# Altium schematic symbol library ic_timer_555.SchLib: 23 symbols
Pins are listed as number, name and electrical type; pins without a type are passive.

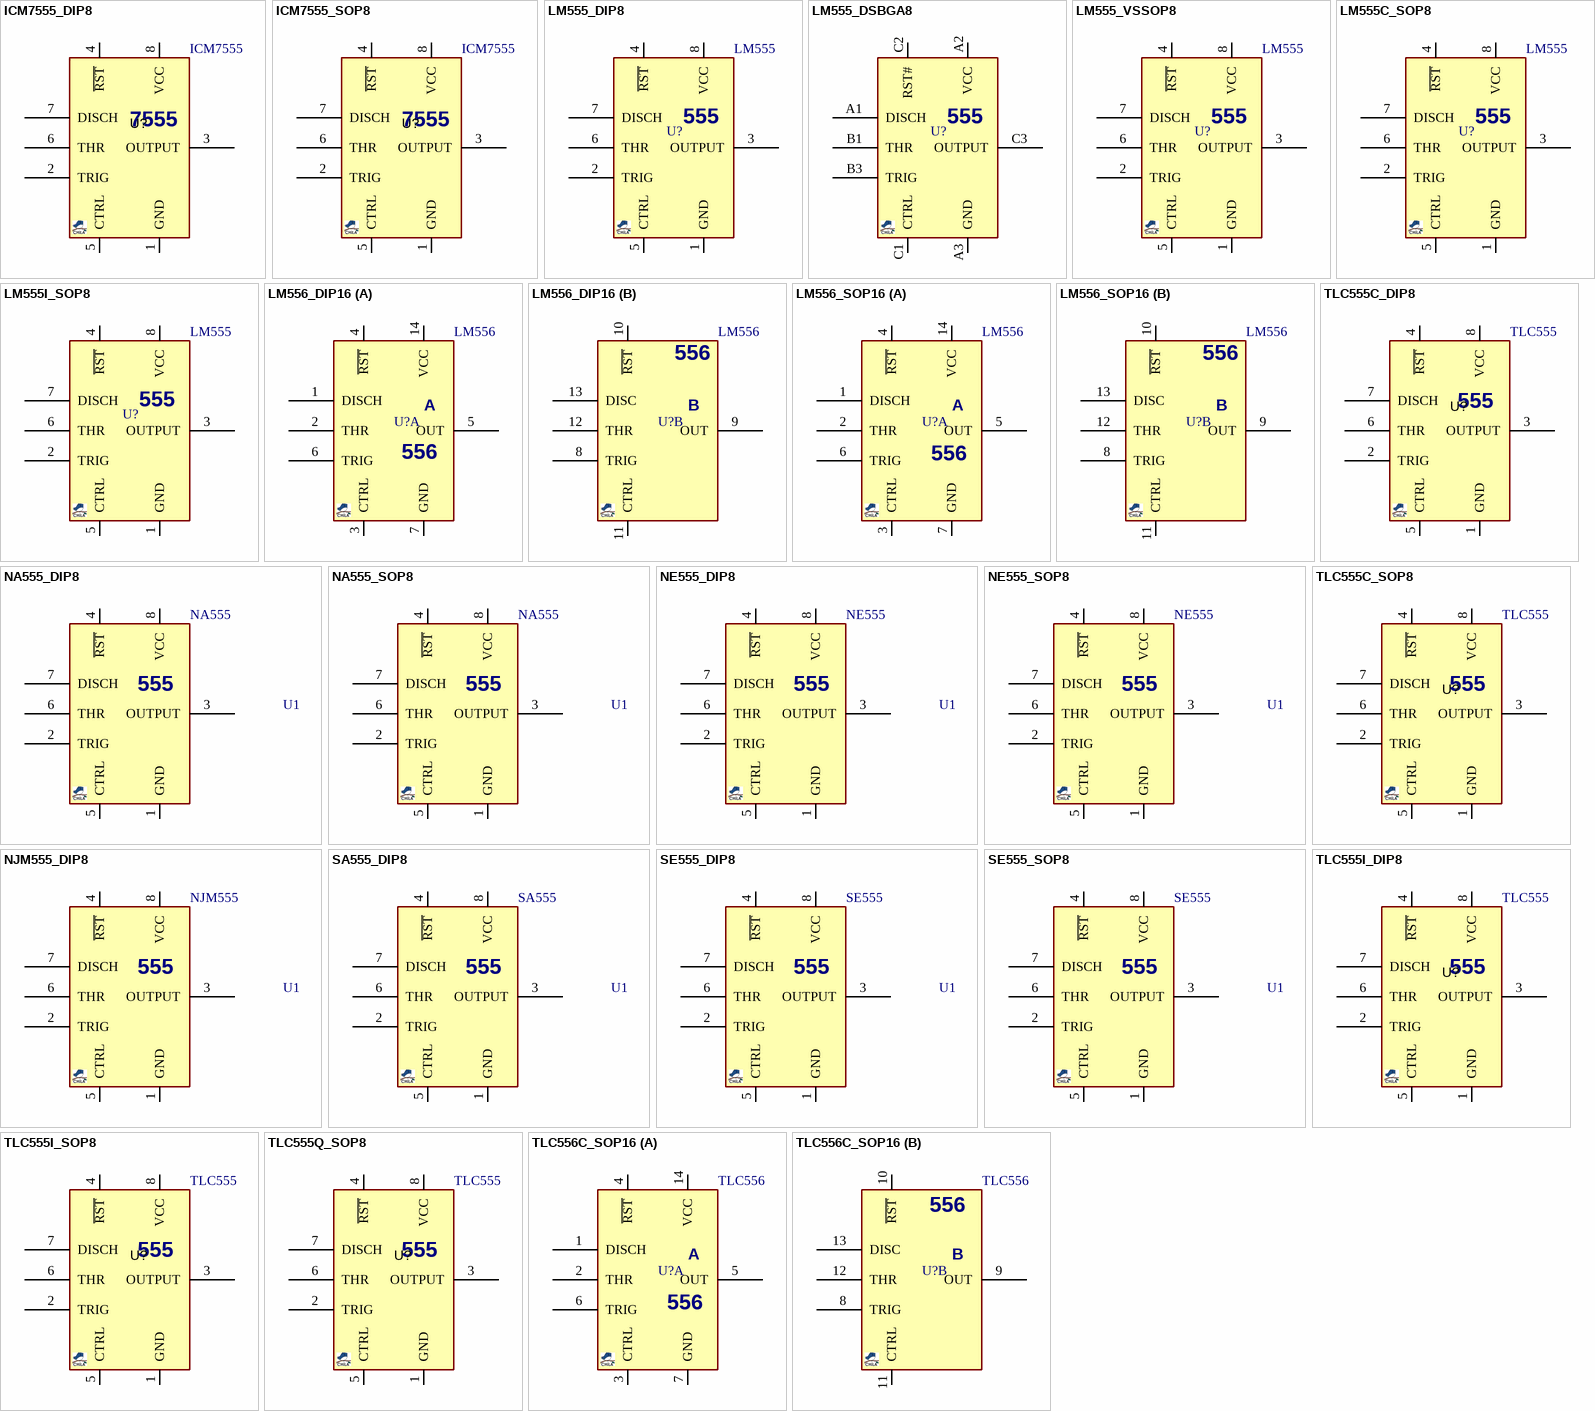
[diagram p0: symbols ICM7555_DIP8 to TLC556C_SOP16]

## ICM7555_DIP8
designator U?, comment ICM7555
555 Timer, CMOS; PARAM: 500kHz, 180µA; PARAM2: 2~18v; MANF_P#: ICM7555CD/01,118, ICM7555IPAZ, ICM7555IPA+; MANF: NXP, Intersil, MAXIM; VALUE: ICM7555
footprint DIP_8 (DIP, pitch 2.54mm, 300mil Width)
pins: 1 GND, 2 TRIG, 3 OUTPUT, 4 ~{RST}, 5 CTRL, 6 THR, 7 DISCH, 8 VCC
text: 7555

## ICM7555_SOP8
designator U?, comment ICM7555
555 Timer, CMOS; PARAM: 500kHz, 180µA; PARAM2: 2~18v; MANF_P#: ICM7555CD/01,118, ICM7555CBAZ-T, ICM7555ESA+, ICM7555ISA+, ICM7555CBAZ, ICM7555IBAZ; MANF: NXP, INTERSIL, MAXIM; VALUE: ICM7555
footprint SO_8
pins: 1 GND, 2 TRIG, 3 OUTPUT, 4 ~{RST}, 5 CTRL, 6 THR, 7 DISCH, 8 VCC
text: 7555

## LM555_DIP8
designator U?, comment LM555
555 Timer,; MANF: Fairchild, Texas Instruments; MANF_P#: LM555CN; PARAM2: 4.5~16V; PARAM: 200mA output; VALUE: LM555
footprint DIP_8 (DIP, pitch 2.54mm, 300mil Width)
pins: 1 GND, 2 TRIG, 3 OUTPUT, 4 ~{RST}, 5 CTRL, 6 THR, 7 DISCH, 8 VCC
text: 555

## LM555_DSBGA8
designator U?, comment LM555  (value not drawn)
555 Timer, DSBGA-8; MANF: Texas Instruments; MANF_P#: LMC555CTP; PARAM2: 4.5~16V; PARAM: 200mA output, -40~85°C; PRICE: 1.2$; VALUE: LM555
footprint BGA50_8_1414 (DSBGA-8, YPB8, 0.5mm pitch, 1.45x1.45x0.6mm)
pins: A1 DISCH, A2 VCC, A3 GND, B1 THR, B3 TRIG, C1 CTRL, C2 RST#, C3 OUTPUT
text: 555

## LM555_VSSOP8
designator U?, comment LM555
555 Timer, VSSOP-8; MANF: Texas Instruments; MANF_P#: LMC555CMM; PARAM2: 4.5~16V; PARAM: 200mA output; VALUE: LM555
footprint SOG50_8 (VSSOP DCU US8  (TI), 8-Leads, 2.00x2.30mm, Pitch 0.50mm)
pins: 1 GND, 2 TRIG, 3 OUTPUT, 4 ~{RST}, 5 CTRL, 6 THR, 7 DISCH, 8 VCC
text: 555

## LM555C_SOP8
designator U?, comment LM555
555 Timer,; MANF: Texas Instruments; MANF_P#: LM555CMX, LMC555CM; PARAM2: 4.5~16V; PARAM: 200mA output, 0~70oC; VALUE: LM555
footprint SO_8
pins: 1 GND, 2 TRIG, 3 OUTPUT, 4 ~{RST}, 5 CTRL, 6 THR, 7 DISCH, 8 VCC
text: 555

## LM555I_SOP8
designator U?, comment LM555
555 Timer,; MANF: Texas Instruments; MANF_P#: LMC555IMX; PARAM2: 4.5~16V; PARAM: 200mA output, -40~85oC; VALUE: LM555
footprint SO_8
pins: 1 GND, 2 TRIG, 3 OUTPUT, 4 ~{RST}, 5 CTRL, 6 THR, 7 DISCH, 8 VCC
text: 555

## LM556_DIP16
designator U?, comment LM556
555 Timer, DUAL; MANF_P#: LM556CJ; PARAM2: 4.5~16V; PARAM: 200mA output; VALUE: LM556
footprint DIP_16 (DIP, pitch 2.54mm, 300mil Width)
part A pins: 1 DISCH, 2 THR, 3 CTRL, 4 ~{RST}, 5 OUT, 6 TRIG, 7 GND, 14 VCC
part B pins: 8 TRIG, 9 OUT, 10 ~{RST}, 11 CTRL, 12 THR, 13 DISC
part A text: A; 556
part B text: 556; B

## LM556_SOP16
designator U?, comment LM556
555 Timer, DUAL; MANF_P#: LM556CMX; MANF: Texas Instruments; PARAM2: 4.5~16V; PARAM: 200mA output; VALUE: LM556
footprint SO_16
part A pins: 1 DISCH, 2 THR, 3 CTRL, 4 ~{RST}, 5 OUT, 6 TRIG, 7 GND, 14 VCC
part B pins: 8 TRIG, 9 OUT, 10 ~{RST}, 11 CTRL, 12 THR, 13 DISC
part A text: A; 556
part B text: 556; B

## NA555_DIP8
designator U1, comment NA555
555 Timer, General-Purpose Single Bipolar Timer; MANF_P#: NA555P; MANF: Texas Instruments; PARAM2: 4.5~16V; PARAM: 200mA output, -40~105oC; VALUE: NA555
footprint DIP_8 (DIP, pitch 2.54mm, 300mil Width)
pins: 1 GND, 2 TRIG, 3 OUTPUT, 4 ~{RST}, 5 CTRL, 6 THR, 7 DISCH, 8 VCC
text: 555

## NA555_SOP8
designator U1, comment NA555
555 Timer, General-Purpose Single Bipolar Timer; MANF_P#: NA555DR; MANF: Texas Instruments; PARAM2: 4.5~16V; PARAM: 200mA output, -40~105oC; VALUE: NA555
footprint SO_8
pins: 1 GND, 2 TRIG, 3 OUTPUT, 4 ~{RST}, 5 CTRL, 6 THR, 7 DISCH, 8 VCC
text: 555

## NE555_DIP8
designator U1, comment NE555
555 Timer, General-Purpose Single Bipolar Timer; MANF_P#: NE555P, NE555PE4; MANF: Texas Instruments; PARAM2: 4.5~16V; PARAM: 200mA output, 0~70oC; VALUE: NE555
footprint DIP_8 (DIP, pitch 2.54mm, 300mil Width)
pins: 1 GND, 2 TRIG, 3 OUTPUT, 4 ~{RST}, 5 CTRL, 6 THR, 7 DISCH, 8 VCC
text: 555

## NE555_SOP8
designator U1, comment NE555
555 Timer, General-Purpose Single Bipolar Timer; MANF_P#: NE555DR,; MANF: Texas Instruments; PARAM2: 4.5~16V; PARAM: 200mA output, 0~70oC; VALUE: NE555
footprint SO_8
pins: 1 GND, 2 TRIG, 3 OUTPUT, 4 ~{RST}, 5 CTRL, 6 THR, 7 DISCH, 8 VCC
text: 555

## NJM555_DIP8
designator U1, comment NJM555
555 Timer, General-Purpose Single Bipolar Timer; MANF_P#: NJM555D; MANF: NJR; PARAM2: 4.5~16V; PARAM: 200mA output, -40~85oC; VALUE: NJM555
footprint DIP_8 (DIP, pitch 2.54mm, 300mil Width)
pins: 1 GND, 2 TRIG, 3 OUTPUT, 4 ~{RST}, 5 CTRL, 6 THR, 7 DISCH, 8 VCC
text: 555

## SA555_DIP8
designator U1, comment SA555
555 Timer, General-Purpose Single Bipolar Timer; MANF_P#: SA555P; MANF: Texas Instruments; PARAM2: 4.5~16V; PARAM: 200mA output, -40~85oC; VALUE: SA555
footprint DIP_8 (DIP, pitch 2.54mm, 300mil Width)
pins: 1 GND, 2 TRIG, 3 OUTPUT, 4 ~{RST}, 5 CTRL, 6 THR, 7 DISCH, 8 VCC
text: 555

## SE555_DIP8
designator U1, comment SE555
555 Timer, General-Purpose Single Bipolar Timer; MANF_P#: SE555P; MANF: Texas Instruments; PARAM2: 4.5~16V; PARAM: 200mA output, -55~125oC; VALUE: SE555
footprint DIP_8 (DIP, pitch 2.54mm, 300mil Width)
pins: 1 GND, 2 TRIG, 3 OUTPUT, 4 ~{RST}, 5 CTRL, 6 THR, 7 DISCH, 8 VCC
text: 555

## SE555_SOP8
designator U1, comment SE555
555 Timer, General-Purpose Single Bipolar Timer; MANF_P#: SE555D; MANF: Texas Instruments; PARAM2: 4.5~16V; PARAM: 200mA output, -55~125oC; VALUE: SE555
footprint SO_8
pins: 1 GND, 2 TRIG, 3 OUTPUT, 4 ~{RST}, 5 CTRL, 6 THR, 7 DISCH, 8 VCC
text: 555

## TLC555C_DIP8
designator U?, comment TLC555
555 Timer, CMOS; PARAM: 100mA sink, 10mA source, 180µA; PARAM2: 2~15V, 2100kHz, 0~70oC; MANF_P#: TLC555CP; MANF: Texas Instruments; VALUE: TLC555
footprint DIP_8 (DIP, pitch 2.54mm, 300mil Width)
pins: 1 GND, 2 TRIG, 3 OUTPUT, 4 ~{RST}, 5 CTRL, 6 THR, 7 DISCH, 8 VCC
text: 555

## TLC555C_SOP8
designator U?, comment TLC555
555 Timer, CMOS; PARAM: 100mA sink, 10mA source, 180µA; PARAM2: 2~15V, 2100kHz, 0~70oC; MANF_P#: TLC555CDG4, TLC555CDR; MANF: Texas Instruments; VALUE: TLC555
footprint SO_8
pins: 1 GND, 2 TRIG, 3 OUTPUT, 4 ~{RST}, 5 CTRL, 6 THR, 7 DISCH, 8 VCC
text: 555

## TLC555I_DIP8
designator U?, comment TLC555
555 Timer, CMOS; PARAM: 100mA sink, 10mA source, 180µA; PARAM2: 2~15V, 2100kHz, -40~85oC; MANF_P#: TLC555IP; MANF: Texas Instruments; VALUE: TLC555
footprint DIP_8 (DIP, pitch 2.54mm, 300mil Width)
pins: 1 GND, 2 TRIG, 3 OUTPUT, 4 ~{RST}, 5 CTRL, 6 THR, 7 DISCH, 8 VCC
text: 555

## TLC555I_SOP8
designator U?, comment TLC555
555 Timer, CMOS; PARAM: 100mA sink, 10mA source, 180µA; PARAM2: 2~15V, 2100kHz, -40~85oC; MANF_P#: TLC555ID; MANF: Texas Instruments; VALUE: TLC555
footprint SO_8
pins: 1 GND, 2 TRIG, 3 OUTPUT, 4 ~{RST}, 5 CTRL, 6 THR, 7 DISCH, 8 VCC
text: 555

## TLC555Q_SOP8
designator U?, comment TLC555
555 Timer, CMOS; PARAM: 100mA sink, 10mA source, 180µA; PARAM2: 2~15V, 2100kHz, -40~125oC; MANF_P#: TLC555QD; MANF: Texas Instruments; VALUE: TLC555
footprint SO_8
pins: 1 GND, 2 TRIG, 3 OUTPUT, 4 ~{RST}, 5 CTRL, 6 THR, 7 DISCH, 8 VCC
text: 555

## TLC556C_SOP16
designator U?, comment TLC556
555 Timer, DUAL; MANF_P#: TLC556CD; MANF: Texas Instruments; PARAM2: 2~15V, 2100kHz, 0~70oC; PARAM: 100mA sink, 10mA source, 180µA; VALUE: TLC556
footprint SO_16
part A pins: 1 DISCH, 2 THR, 3 CTRL, 4 ~{RST}, 5 OUT, 6 TRIG, 7 GND, 14 VCC
part B pins: 8 TRIG, 9 OUT, 10 ~{RST}, 11 CTRL, 12 THR, 13 DISC
part A text: A; 556
part B text: 556; B